# EAGLE library part TPS2553DBVR-1 (library tecsmith_keyboards)
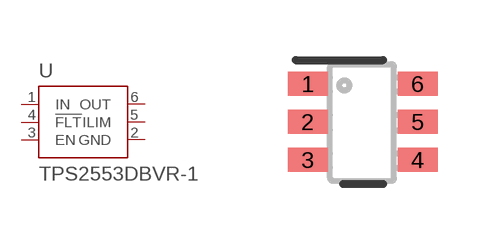
[diagram p9: symbol with the pads of DBV0006A_N; footprint DBV0006A_N]

Designator prefix U

## TPS2553DBVR-1  [DBV0006A_N]
1  IN  pwr
2  GND  pwr
3  EN  in
4  !FLT  oc
5  ILIM  in
6  OUT  pwr

## Footprint DBV0006A_N (pad centres in mm)
smd 1 x 0.6: 1 -1.375,0.95; 2 -1.375,0; 3 -1.375,-0.95; 4 1.375,-0.95; 5 1.375,0; 6 1.375,0.95